# Altium integrated library 1734346-1.IntLib: 1 symbol
Pins are listed as number, name and electrical type; pins without a type are passive.

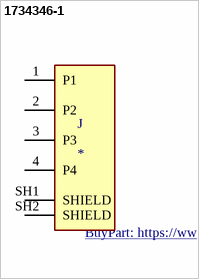
[diagram p0: symbol 1734346-1]

## 1734346-1
designator J
Conn USB 2.0 Type B RCP 4 POS Solder RA SMD 4 Terminal 1 Port Box/Tray; MF: TE Connectivity; Centerline_Pitch: 2.5 mm[.098 in]; MP: 1734346-1; Product_Type: Connector; Number_of_Positions: 4; Value: *; Availability: Unavailable; SnapEDA_Link: https://www.snapeda.com/parts/1734346-1/TE%20Connectivity%20AMP%20Connectors/view-part/286941/?ref=snap; Package: None; Price: None; EU_RoHS_Compliance: Compliant; BuyPart: https://www.snapeda.com/parts/1734346-1/TE%20Connectivity%20AMP%20Connectors/view-part/286941/?ref=eda
footprint TE_1734346-1
pins: 1 P1, 2 P2, 3 P3, 4 P4, SH1 SHIELD, SH2 SHIELD